# EAGLE library part MAX6070 (library jason_eagle6)
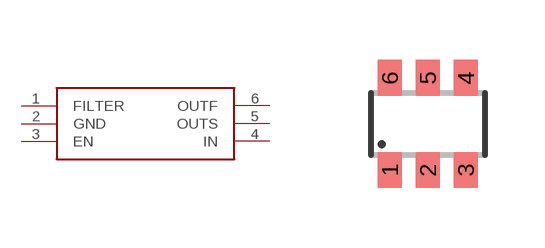
[diagram p34: symbol with the pads of SOT23-6; footprint SOT23-6]

Designator prefix -

## MAX6070  [SOT23-6]
1  FILTER
2  GND
3  EN
4  IN
5  OUTS
6  OUTF

## Footprint SOT23-6 (pad centres in mm)
Small Outline Transistor 6 lead
smd 0.6 x 0.9: 1 -0.95,-1.15; 2 0,-1.15; 3 0.95,-1.15; 4 0.95,1.15; 5 0,1.15; 6 -0.95,1.15